# EAGLE library part KXN_HEADER_1X7 (library kxnStandard_connector)
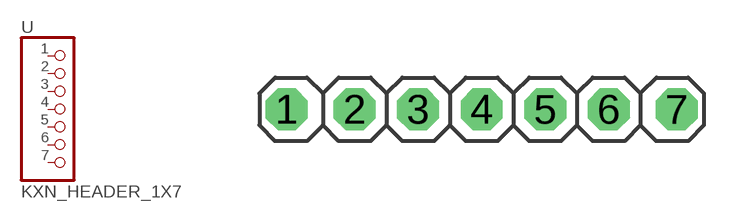
[diagram p21: symbol with the pads of HEADER_1X7_LOCK; footprint HEADER_1X7_LOCK]

Designator prefix -

## KXN_HEADER_1X7_LOCK_M (CC_SHOP: CongCo)  [HEADER_1X7_LOCK]
1  1  pas
2  2  pas
3  3  pas
4  4  pas
5  5  pas
6  6  pas
7  7  pas

## Footprint HEADER_1X7_LOCK (pad centres in mm)
drill 0.95 pad 1.676 octagon: 1 -7.8,0; 2 -5.08,0; 3 -2.54,0; 4 0,0; 5 2.54,0; 6 5.08,0; 7 7.8,0